# Altium schematic symbol library STM32MP135DAF7.SchLib: 1 symbol
Pins are listed as number, name and electrical type; pins without a type are passive.

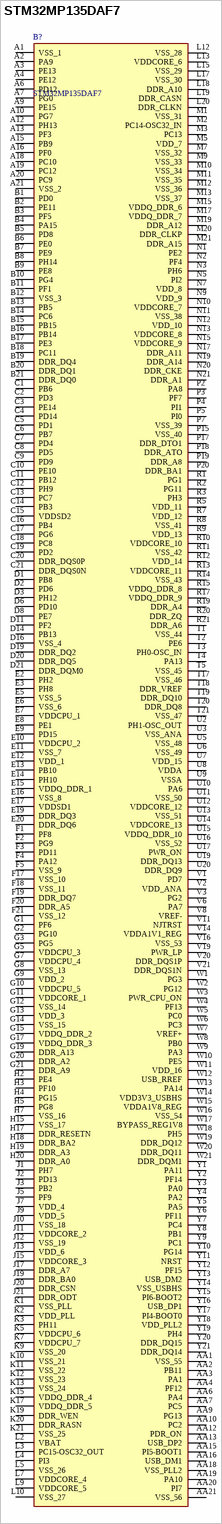
[diagram p0: symbol STM32MP135DAF7]

## STM32MP135DAF7
designator B?
32-bit Arm Cortex-A7 1GHz MPU for Graphics; Manufacturer_Name: STMicroelectronics; Geometry.Height: 1.2mm; Manufacturer_Part_Number: STM32MP135DAF7; Mouser Part Number: *; Mouser Price/Stock: *; Arrow Part Number: *; Arrow Price/Stock: *; Datasheet Link: https://www.st.com/resource/en/datasheet/stm32mp135a.pdf
footprint BGA320C50P21X21_1100X1100X120
pins: A1 VSS_1, A2 PA9, A3 PE13, A4 PE12, A6 PD12, A7 PG0, A9 PE15, A10 PG7, A12 PH13, A13 PF3, A15 PB9, A16 PF0, A18 PC10, A19 PC12, A20 PC9, A21 VSS_2, AA1 VSS_55, AA2 PB11, AA3 PA1, AA4 PF12, AA6 PA4, AA7 PC5, AA9 PG13, AA10 PC2, AA12 PDR_ON, AA13 USB_DP2, AA15 PI5-BOOT1, AA16 USB_DM1, AA18 VSS_PLL2, AA19 PA10, AA20 PI7, AA21 VSS_56, B1 PD0, B2 PE11, B3 PF5, B4 PA15, B5 PD8, B6 PE0, B7 PE9, B8 PH14, B9 PE8, B10 PG4, B11 PF1, B12 VSS_3, B13 PB5, B14 PC6, B15 PB15, B16 PB14, B17 PE3, B18 PC11, B19 DDR_DQ4, B20 DDR_DQ1, B21 DDR_DQ0, C1 PB6, C2 PD3, C3 PE14, C4 PD14, C5 PD1, C6 PB7, C7 PD4, C8 PD5, C9 PD9, C10 PE10, C11 PB12, C12 PH9, C13 PC7, C14 PB3, C15 VDDSD2, C16 PB4, C17 PG6, C18 PC8, C19 PD2, C20 DDR_DQS0P, C21 DDR_DQS0N, D1 PB8, D2 PD6, D3 PH12, D6 PD10, D8 PE7, D11 PF2, D14 PB13, D16 VSS_4, D19 DDR_DQ2, D20 DDR_DQ5, D21 DDR_DQM0, E2 PH2, E3 PH8, E5 VSS_5, E6 VSS_6, E7 VDDCPU_1, E8 PE1, E9 PD15, E10 VDDCPU_2, E11 VSS_7, E12 VDD_1, E13 PB10, E14 PH10, E15 VDDQ_DDR_1, E16 VSS_8, E17 VDDSD1, E19 DDR_DQ3, E20 DDR_DQ6, F1 PF8, F2 PG9, F3 PD11, F4 PA12, F5 VSS_9, F17 VSS_10, F18 VSS_11, F19 DDR_DQ7, F20 DDR_A5, F21 VSS_12, G1 PF6, G2 PG10, G3 PG5, G5 VDDCPU_3, G7 VDDCPU_4, G8 VSS_13, G9 VDD_2, G10 VDDCPU_5, G11 VDDCORE_1, G12 VSS_14, G13 VDD_3, G14 VSS_15, G15 VDDQ_DDR_2, G17 VDDQ_DDR_3, G19 DDR_A13, G20 DDR_A2, G21 DDR_A9, H2 PE4, H3 PF10, H4 PG15, H5 PG8, H7 VSS_16, H15 VSS_17, H17 DDR_RESETN, H18 DDR_BA2, H19 DDR_A3, H20 DDR_A0, J1 PH7, J2 PD13, J3 PB2, J5 PF9, J7 VDD_4, J9 VDD_5, J10 VSS_18, J11 VDDCORE_2, J12 VSS_19, J13 VDD_6, J15 VDDCORE_3, J17 DDR_A7, J19 DDR_BA0, J20 DDR_CSN, J21 DDR_ODT, K1 VSS_PLL, K2 VDD_PLL, K3 PH11, K5 VDDCPU_6, K7 VDDCPU_7, K9 VSS_20, K10 VSS_21, K11 VSS_22, K12 VSS_23, K13 VSS_24, K15 VDDQ_DDR_4, K17 VDDQ_DDR_5, K19 DDR_WEN, K20 DDR_RASN, K21 VSS_25, L2 VBAT, L3 PC15-OSC32_OUT, L4 PI3, L5 VSS_26, L7 VDDCORE_4, L9 VDDCORE_5, L10 VSS_27, L12 VSS_28, L13 VDDCORE_6, L15 VSS_29, L17 VSS_30, L18 DDR_A10, L19 DDR_CASN, L20 DDR_CLKN, M1 VSS_31, M2 PC14-OSC32_IN, M3 PC13, M5 VDD_7, M7 VSS_32, M9 VSS_33, M10 VSS_34, M11 VSS_35, M12 VSS_36, M13 VSS_37, M15 VDDQ_DDR_6, M17 VDDQ_DDR_7, M19 DDR_A12, M20 DDR_CLKP, M21 DDR_A15, N1 PE2, N2 PF4, N3 PH6, N5 PI2, N7 VDD_8, N9 VDD_9, N10 VDDCORE_7, N11 VSS_38, N12 VDD_10, N13 VDDCORE_8, N15 VDDCORE_9, N17 DDR_A11, N19 DDR_A14, N20 DDR_CKE, N21 DDR_A1, P2 PA8, P3 PF7, P4 PI1, P5 PI0, P7 VSS_39, P15 VSS_40, P17 DDR_DTO1, P18 DDR_ATO, P19 DDR_A8, P20 DDR_BA1, R1 PG1, R2 PG11, R3 PH3, R5 VDD_11, R7 VDD_12, R8 VSS_41, R9 VDD_13, R10 VDDCORE_10, R11 VSS_42, R12 VDD_14, R13 VDDCORE_11, R14 VSS_43, R15 VDDQ_DDR_8, R17 VDDQ_DDR_9, R19 DDR_A4, R20 DDR_ZQ, R21 DDR_A6, T1 VSS_44, T2 PE6, T3 PH0-OSC_IN, T4 PA13, T5 VSS_45, T17 VSS_46, T18 DDR_VREF, T19 DDR_DQ10, T20 DDR_DQ8, T21 VSS_47, U2 PH1-OSC_OUT, U3 VSS_ANA, U5 VSS_48, U6 VSS_49, U7 VDD_15, U8 VDDA, U9 VSSA, U10 PA6, U11 VSS_50, U12 VDDCORE_12, U13 VSS_51, U14 VDDCORE_13, U15 VDDQ_DDR_10, U16 VSS_52, U17 PWR_ON, U19 DDR_DQ13, U20 DDR_DQ9, V1 PD7, V2 VDD_ANA, V3 PG2, V6 PA7, V8 VREF-, V11 NJTRST, V14 VDDA1V1_REG, V16 VSS_53, V19 PWR_LP, V20 DDR_DQS1P, V21 DDR_DQS1N, W1 PG3, W2 PG12, W3 PWR_CPU_ON, W4 PF13, W5 PC0, W6 PC3, W7 VREF+, W8 PB0, W9 PA3, W10 PE5, W11 VDD_16, W12 USB_RREF, W13 PA14, W14 VDD3V3_USBHS, W15 VDDA1V8_REG, W16 VSS_54, W17 BYPASS_REG1V8, W18 PH5, W19 DDR_DQ12, W20 DDR_DQ11, W21 DDR_DQM1, Y1 PA11, Y2 PF14, Y3 PA0, Y4 PA2, Y5 PA5, Y6 PF11, Y7 PC4, Y8 PB1, Y9 PC1, Y10 PG14, Y11 NRST, Y12 PF15, Y13 USB_DM2, Y14 VSS_USBHS, Y15 PI6-BOOT2, Y16 USB_DP1, Y17 PI4-BOOT0, Y18 VDD_PLL2, Y19 PH4, Y20 DDR_DQ15, Y21 DDR_DQ14